# Altium schematic symbol library DSO.SchLib: 154 symbols
Pins are listed as number, name and electrical type; pins without a type are passive.

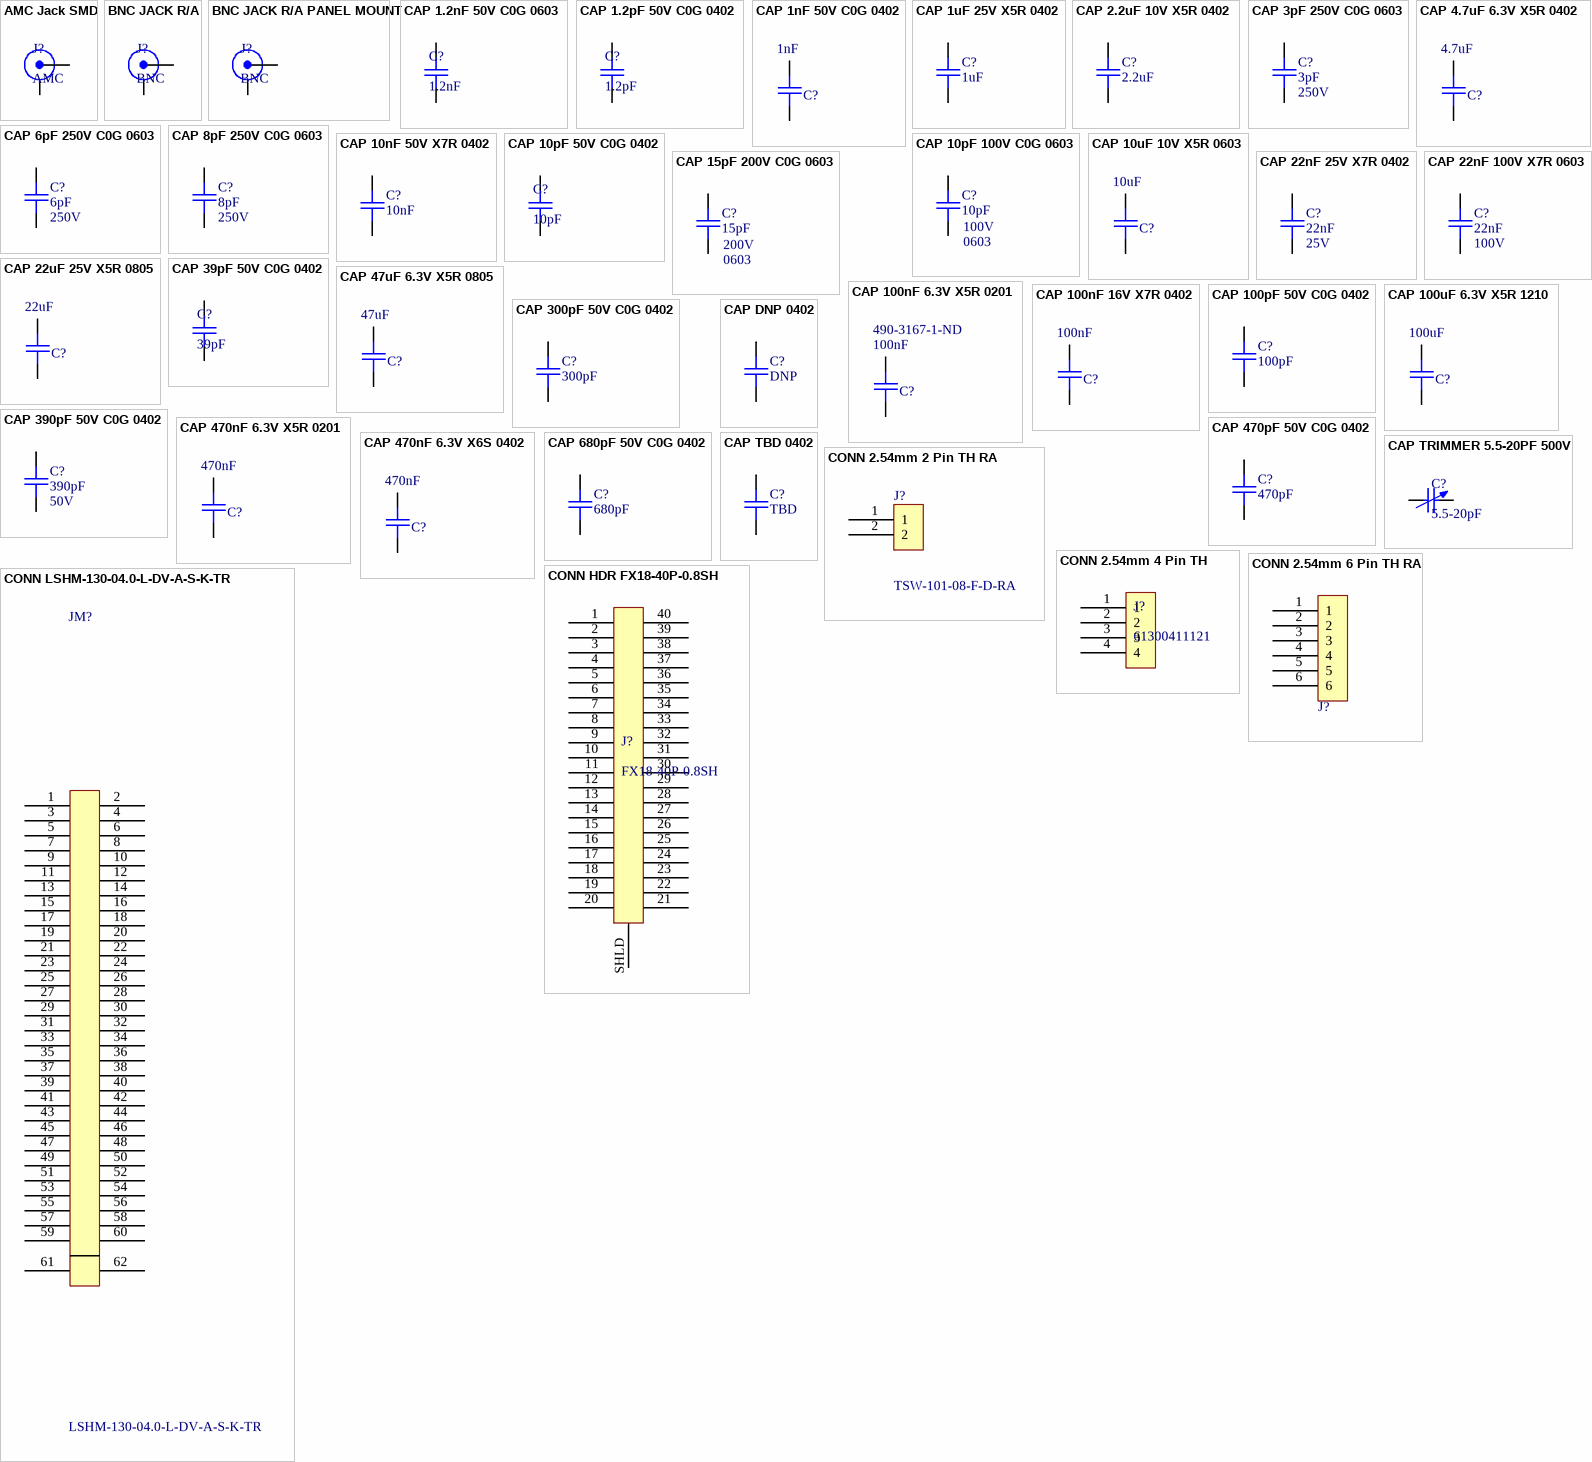
[diagram p0: symbols AMC Jack SMD to CONN LSHM-130-04.0-L-DV-A-S-K-TR]

## AMC Jack SMD
designator J?, comment AMC
Supplier 1: Digi-Key; Supplier Part Number 1: ARF1579CT-ND
footprint AMP_A-1JB
pins: 1 Signal, 2 SHIELD

## BNC JACK R/A
designator J?, comment BNC
Supplier 1: Digi-Key; Supplier Part Number 1: WM5524-ND
footprint MOL_0731000105 (Molex BNC Jack, TH Right Angle)
pins: 1 Signal, 2 SHIELD

## BNC JACK R/A PANEL MOUNT
designator J?, comment BNC
Supplier 1: Digi-Key; Supplier Part Number 1: WM5515-ND
footprint MOL_0731385033
pins: 1 Signal, 2 SHIELD

## CAP 1.2nF 50V C0G 0603
designator C?, comment 1.2nF
Voltage Rating: 50V; Temperature Coefficient: C0G; Package: 0603; Value: 1.2nF; Supplier 1: Digi-Key; Supplier Part Number 1: 490-1453-1-ND
footprint GEN_C_0603 (Chip Capacitor, 2-Leads, Body 1.60x0.80mm, IPC Medium Density)
pins: 1, 2

## CAP 1.2pF 50V C0G 0402
designator C?, comment 1.2pF
Temperature Coefficient: C0G; Voltage Rating: 50V; Package: 0402; Value: 1.2pF; Supplier 1: Digi-Key; Supplier Part Number 1: 311-1615-1-ND
footprint GEN_C_0402 (Chip Capacitor, 0402, IPC Medium Density)
pins: 1, 2

## CAP 1nF 50V C0G 0402
designator C?, comment 1nF
Voltage Rating: 50V; Package: 0402; Supplier 1: Digi-Key; Supplier Part Number 1: 490-6189-1-ND; Value: 1nF
footprint GEN_C_0402 (Chip Capacitor, 0402, IPC Medium Density)
pins: 1, 2

## CAP 1uF 25V X5R 0402
designator C?, comment 1uF
Voltage Rating: 25V; Package: 0402; Supplier 1: Digi-Key; Supplier Part Number 1: 490-10017-1-ND; Value: 1uF
footprint GEN_C_0402 (Chip Capacitor, 0402, IPC Medium Density)
pins: 1, 2

## CAP 2.2uF 10V X5R 0402
designator C?, comment 2.2uF
Voltage Rating: 10V; Package: 0402; Supplier 1: Digi-Key; Supplier Part Number 1: 587-3153-1-ND; Value: 2.2uF
footprint GEN_C_0402 (Chip Capacitor, 0402, IPC Medium Density)
pins: 1, 2

## CAP 3pF 250V C0G 0603
designator C?, comment 3pF  Voltage Rating: 250V
Package: 0603; Supplier 1: Digi-Key; Supplier Part Number 1: 399-8820-1-ND; Value: 3pF
footprint GEN_C_0603 (Chip Capacitor, 2-Leads, Body 1.60x0.80mm, IPC Medium Density)
pins: 1, 2

## CAP 4.7uF 6.3V X5R 0402
designator C?, comment 4.7uF
Voltage Rating: 6.3V; Package: 0402; Value: 4.7uF; Supplier 1: Digi-Key; Supplier Part Number 1: 490-5915-1-ND
footprint GEN_C_0402 (Chip Capacitor, 0402, IPC Medium Density)
pins: 1, 2

## CAP 6pF 250V C0G 0603
designator C?, comment 6pF  Voltage Rating: 250V
Supplier 1: Digi-Key; Supplier Part Number 1: 399-8734-1-ND; Package: 0603; Value: 6pF
footprint GEN_C_0603 (Chip Capacitor, 2-Leads, Body 1.60x0.80mm, IPC Medium Density)
pins: 1, 2

## CAP 8pF 250V C0G 0603
designator C?, comment 8pF  Voltage Rating: 250V
Package: 0603; Supplier 1: Digi-Key; Supplier Part Number 1: 399-8740-1-ND; Value: 8pF
footprint GEN_C_0603 (Chip Capacitor, 2-Leads, Body 1.60x0.80mm, IPC Medium Density)
pins: 1, 2

## CAP 10nF 50V X7R 0402
designator C?, comment 10nF
Voltage Rating: 50V; Package: 0402; Value: 10nF; Supplier 1: Digi-Key; Supplier Part Number 1: 490-6351-1-ND
footprint GEN_C_0402 (Chip Capacitor, 0402, IPC Medium Density)
pins: 1, 2

## CAP 10pF 50V C0G 0402
designator C?, comment 10pF
Temperature Coefficient: C0G; Voltage Rating: 50V; Package: 0402; Value: 10pF; Supplier 1: Digi-Key; Supplier Part Number 1: 1276-1139-1-ND
footprint GEN_C_0402 (Chip Capacitor, 0402, IPC Medium Density)
pins: 1, 2

## CAP 10pF 100V C0G 0603
designator C?, comment 10pF  Package: 0603  Voltage Rating: 100V
Value: 10pF; Supplier 1: Digi-Key; Supplier Part Number 1: 478-5769-1-ND
footprint GEN_C_0603 (Chip Capacitor, 2-Leads, Body 1.60x0.80mm, IPC Medium Density)
pins: 1, 2

## CAP 10uF 10V X5R 0603
designator C?, comment 10uF
Voltage Rating: 10V; Package: 0402; Supplier 1: Digi-Key; Supplier Part Number 1: 490-10474-1-ND; Value: 10uF
footprint GEN_C_0603 (Chip Capacitor, 2-Leads, Body 1.60x0.80mm, IPC Medium Density)
pins: 1, 2

## CAP 15pF 200V C0G 0603
designator C?, comment 15pF  Package: 0603  Voltage Rating: 200V
Supplier 1: Digi-Key; Supplier Part Number 1: 478-10254-1-ND; Value: 15pF
footprint GEN_C_0603 (Chip Capacitor, 2-Leads, Body 1.60x0.80mm, IPC Medium Density)
pins: 1, 2

## CAP 22nF 25V X7R 0402
designator C?, comment 22nF  Voltage Rating: 25V
Package: 0402; Supplier 1: Digi-Key; Supplier Part Number 1: 490-10699-1-ND; Value: 22nF
footprint GEN_C_0402 (Chip Capacitor, 0402, IPC Medium Density)
pins: 1, 2

## CAP 22nF 100V X7R 0603
designator C?, comment 22nF  Voltage Rating: 100V
Package: 0603; Supplier 1: Digi-Key; Supplier Part Number 1: 490-4782-1-ND; Value: 22nF
footprint GEN_C_0603 (Chip Capacitor, 2-Leads, Body 1.60x0.80mm, IPC Medium Density)
pins: 1, 2

## CAP 22uF 25V X5R 0805
designator C?, comment 22uF
Voltage Rating: 25V; Package: 0805; Value: 22uF; Supplier 1: Digi-Key; Supplier Part Number 1: 490-10749-1-ND
footprint GEN_C_0805 (Chip Capacitor, 2-Leads, Body 2.00x1.25mm, IPC Medium Density)
pins: 1, 2

## CAP 39pF 50V C0G 0402
designator C?, comment 39pF
Temperature Coefficient: C0G; Voltage Rating: 50V; Package: 0402; Value: 39pF; Supplier 1: Digi-Key; Supplier Part Number 1: 399-C0402C390J5GAC7867CT-ND
footprint GEN_C_0402 (Chip Capacitor, 0402, IPC Medium Density)
pins: 1, 2

## CAP 47uF 6.3V X5R 0805
designator C?, comment 47uF
Voltage Rating: 6.3V; Package: 0805; Value: 47uF; Supplier 1: Digi-Key; Supplier Part Number 1: 1276-1852-1-ND
footprint GEN_C_0805 (Chip Capacitor, 2-Leads, Body 2.00x1.25mm, IPC Medium Density)
pins: 1, 2

## CAP 100nF 6.3V X5R 0201
designator C?, comment 100nF  Supplier Part Number 1: 490-3167-1-ND
Voltage Rating: 6.3V; Package: 0201; Value: 100nF; Supplier 1: Digi-Key
footprint GEN_C_0201 (Chip Capacitor, 2-Leads, Body 0.60x0.30mm, IPC Medium Density)
pins: 1, 2

## CAP 100nF 16V X7R 0402
designator C?, comment 100nF
Voltage Rating: 16V; Package: 0402; Supplier 1: Digi-Key; Supplier Part Number 1: 490-4759-1-ND; Value: 100nF
footprint GEN_C_0402 (Chip Capacitor, 0402, IPC Medium Density)
pins: 1, 2

## CAP 100pF 50V C0G 0402
designator C?, comment 100pF
Temperature Coefficient: C0G; Voltage Rating: 50V; Package: 0402; Value: 100pF; Supplier 1: Digi-Key; Supplier Part Number 1: 490-14349-1-ND
footprint GEN_C_0402 (Chip Capacitor, 0402, IPC Medium Density)
pins: 1, 2

## CAP 100uF 6.3V X5R 1210
designator C?, comment 100uF
Voltage Rating: 6.3V; Package: 1210; Value: 100uF; Supplier 1: Digi-Key; Supplier Part Number 1: 1276-1092-1-ND
footprint GEN_C_1210 (Chip Capacitor, 2-Leads, Body 3.20x2.50mm, IPC Medium Density)
pins: 1, 2

## CAP 300pF 50V C0G 0402
designator C?, comment 300pF
Temperature Coefficient: C0G; Voltage Rating: 50V; Package: 0402; Value: 300pF; Supplier 1: Digi-Key; Supplier Part Number 1: 490-GCM1555C1H301FA16DCT-ND
footprint GEN_C_0402 (Chip Capacitor, 0402, IPC Medium Density)
pins: 1, 2

## CAP 390pF 50V C0G 0402
designator C?, comment 390pF  Voltage Rating: 50V
Temperature Coefficient: C0G; Package: 0402; Supplier 1: Digi-Key; Supplier Part Number 1: 490-8202-1-ND; Value: 390pF
footprint GEN_C_0402 (Chip Capacitor, 0402, IPC Medium Density)
pins: 1, 2

## CAP 470nF 6.3V X5R 0201
designator C?, comment 470nF
Voltage Rating: 6.3V; Package: 0201; Value: 470nF; Supplier 1: Digi-Key; Supplier Part Number 1: 490-10409-1-ND
footprint GEN_C_0201 (Chip Capacitor, 2-Leads, Body 0.60x0.30mm, IPC Medium Density)
pins: 1, 2

## CAP 470nF 6.3V X6S 0402
designator C?, comment 470nF
Voltage Rating: 6.3V; Package: 0402; Value: 470nF; Supplier 1: Digi-Key; Supplier Part Number 1: 490-6284-1-ND
footprint GEN_C_0402 (Chip Capacitor, 0402, IPC Medium Density)
pins: 1, 2

## CAP 470pF 50V C0G 0402
designator C?, comment 470pF
Temperature Coefficient: C0G; Voltage Rating: 50V; Package: 0402; Value: 470pF; Supplier 1: Digi-Key; Supplier Part Number 1: 490-8207-1-ND
footprint GEN_C_0402 (Chip Capacitor, 0402, IPC Medium Density)
pins: 1, 2

## CAP 680pF 50V C0G 0402
designator C?, comment 680pF
Temperature Coefficient: C0G; Voltage Rating: 50V; Package: 0402; Value: 680pF; Supplier 1: Digi-Key; Supplier Part Number 1: 490-16439-1-ND
footprint GEN_C_0402 (Chip Capacitor, 0402, IPC Medium Density)
pins: 1, 2

## CAP DNP 0402
designator C?, comment DNP
Package: 0402; Value: DNP
footprint GEN_C_0402 (Chip Capacitor, 0402, IPC Medium Density)
pins: 1, 2

## CAP TBD 0402
designator C?, comment TBD
Package: 0402; Value: TBD
footprint GEN_C_0402 (Chip Capacitor, 0402, IPC Medium Density)
pins: 1, 2

## CAP TRIMMER 5.5-20PF 500V
designator C?, comment 5.5-20pF
Value: 5.5-20pF; Supplier 1: Digikey; Supplier Part Number 1: 2447-SGC3S200NMCT-ND
footprint EW_TRIMCAP
pins: 1, 2

## CONN 2.54mm 2 Pin TH RA
designator J?, comment TSW-101-08-F-D-RA
Supplier 1: Digi-Key; Supplier Part Number 1: SAM12296-ND
footprint GEN_2.54mm_1x2_Pin_TH_RA
pins: 1, 2

## CONN 2.54mm 4 Pin TH
designator J?, comment 61300411121
Supplier 1: Digi-Key; Supplier Part Number 1: 732-5317-ND
footprint GEN_2.54mm_4_Pin_TH
pins: 1, 2, 3, 4

## CONN 2.54mm 6 Pin TH RA
designator J?, comment 2.54mm 6 Pin TH  (value not drawn)
Supplier 1: Digi-Key; Supplier Part Number 1: 732-5339-ND
footprint GEN_2.54mm_6_Pin_TH_RA
pins: 1, 2, 3, 4, 5, 6

## CONN HDR FX18-40P-0.8SH
designator J?, comment FX18-40P-0.8SH
Supplier 1: Digi-Key; Supplier Part Number 1: H11868-ND
footprint HIR_FX18-40P-0.8SH
pins: 1, 2, 3, 4, 5, 6, 7, 8, 9, 10, 11, 12, 13, 14, 15, 16, 17, 18, 19, 20, 21, 22, 23, 24, 25, 26, 27, 28, 29, 30, 31, 32, 33, 34, 35, 36, 37, 38, 39, 40, SHLD

## CONN LSHM-130-04.0-L-DV-A-S-K-TR
designator JM?, comment LSHM-130-04.0-L-DV-A-S-K-TR
Supplier 1: Digi-Key; Supplier Part Number 1: SAM9034CT-ND
footprint SAM_LSHM-130-XX.X-XX-DV-A-S
pins: 1, 2, 3, 4, 5, 6, 7, 8, 9, 10, 11, 12, 13, 14, 15, 16, 17, 18, 19, 20, 21, 22, 23, 24, 25, 26, 27, 28, 29, 30, 31, 32, 33, 34, 35, 36, 37, 38, 39, 40, 41, 42, 43, 44, 45, 46, 47, 48, 49, 50, 51, 52, 53, 54, 55, 56, 57, 58, 59, 60, 61, 62

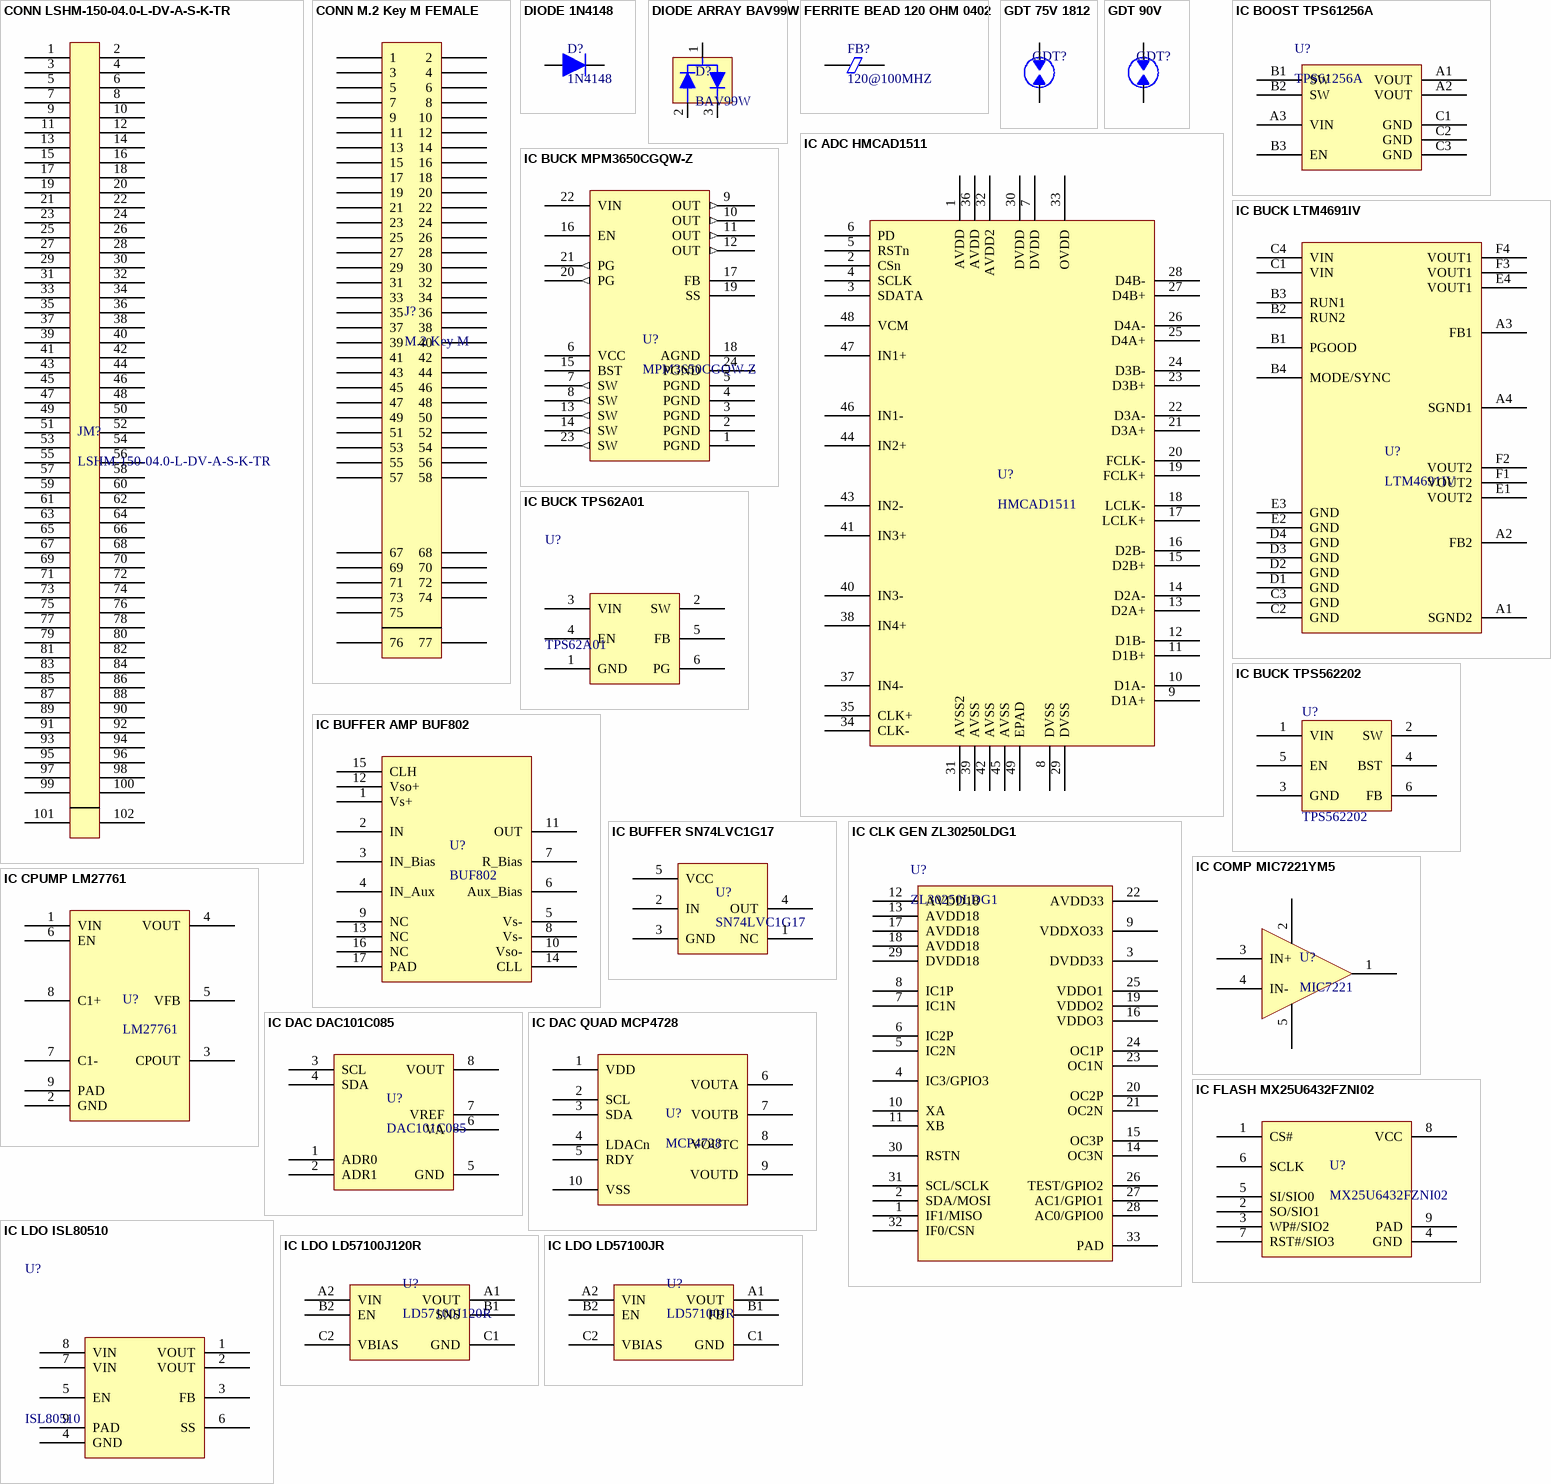
[diagram p1: symbols CONN LSHM-150-04.0-L-DV-A-S-K-TR to IC LDO LD57100JR]

## CONN LSHM-150-04.0-L-DV-A-S-K-TR
designator JM?, comment LSHM-150-04.0-L-DV-A-S-K-TR
Supplier 1: Digi-Key; Supplier Part Number 1: SAM9033CT-ND
footprint SAM_LSHM-150-XX.X-XX-DV-A-S
pins: 1, 2, 3, 4, 5, 6, 7, 8, 9, 10, 11, 12, 13, 14, 15, 16, 17, 18, 19, 20, 21, 22, 23, 24, 25, 26, 27, 28, 29, 30, 31, 32, 33, 34, 35, 36, 37, 38, 39, 40, 41, 42, 43, 44, 45, 46, 47, 48, 49, 50, 51, 52, 53, 54, 55, 56, 57, 58, 59, 60, 61, 62, 63, 64, 65, 66, 67, 68, 69, 70, 71, 72, 73, 74, 75, 76, 77, 78, 79, 80, 81, 82, 83, 84, 85, 86, 87, 88, 89, 90, 91, 92, 93, 94, 95, 96, 97, 98, 99, 100, 101, 102

## CONN M.2 Key M FEMALE
designator J?, comment M.2 Key M
Supplier 1: Digi-Key; Supplier Part Number 1: A124992CT-ND
footprint TE_M2_KEYM_2199230
pins: 1, 2, 3, 4, 5, 6, 7, 8, 9, 10, 11, 12, 13, 14, 15, 16, 17, 18, 19, 20, 21, 22, 23, 24, 25, 26, 27, 28, 29, 30, 31, 32, 33, 34, 35, 36, 37, 38, 39, 40, 41, 42, 43, 44, 45, 46, 47, 48, 49, 50, 51, 52, 53, 54, 55, 56, 57, 58, 67, 68, 69, 70, 71, 72, 73, 74, 75, 76, 77

## DIODE 1N4148
designator D?, comment 1N4148
Max Reverse Voltage: 75V; Max Current: 150mA; Supplier 1: Digi-Key; Supplier Part Number 1: 1N4148WS-FDICT-ND
footprint GEN_SOD_323
pins: 1 K, 2 A

## DIODE ARRAY BAV99W
designator D?, comment BAV99W
Supplier 1: Digi-Key; Supplier Part Number 1: BAV99W-FDICT-ND
footprint GEN_SOT_323
pins: 1  , 2, 3

## FERRITE BEAD 120 OHM 0402
designator FB?, comment 120@100MHZ
Supplier 1: Digi-Key; Supplier Part Number 1: 490-9656-1-ND
footprint GEN_R_0402 (Chip Resistor, 2-Leads, Body 1.00x0.50mm, IPC Medium Density)
pins: 1, 2

## GDT 75V 1812
designator GDT?, comment 4532-075-LF  (value not drawn)
Supplier 1: Digi-Key; Supplier Part Number 1: YAG6774CT-ND
footprint BOU_2051
pins: 1, 2

## GDT 90V
designator GDT?, comment GDT  (value not drawn)
Supplier 1: Digi-Key; Supplier Part Number 1: 2051-09-SM-RPLFCT-ND
footprint BOU_2051
pins: 1, 2

## IC ADC HMCAD1511
designator U?, comment HMCAD1511
Supplier 1: Digi-Key; Supplier Part Number 1: 1127-1648-ND
footprint AD_QFN48_LP7 (QFN, 48-Leads, Body 7.00x7.00mm, Pitch 0.50mm, Thermal Pad 5.28x5.28mm, IPC Medium Density)
pins: 1 AVDD, 2 CSn, 3 SDATA, 4 SCLK, 5 RSTn, 6 PD, 7 DVDD, 8 DVSS, 9 D1A+, 10 D1A-, 11 D1B+, 12 D1B-, 13 D2A+, 14 D2A-, 15 D2B+, 16 D2B-, 17 LCLK+, 18 LCLK-, 19 FCLK+, 20 FCLK-, 21 D3A+, 22 D3A-, 23 D3B+, 24 D3B-, 25 D4A+, 26 D4A-, 27 D4B+, 28 D4B-, 29 DVSS, 30 DVDD, 31 AVSS2, 32 AVDD2, 33 OVDD, 34 CLK-, 35 CLK+, 36 AVDD, 37 IN4-, 38 IN4+, 39 AVSS, 40 IN3-, 41 IN3+, 42 AVSS, 43 IN2-, 44 IN2+, 45 AVSS, 46 IN1-, 47 IN1+, 48 VCM, 49 EPAD

## IC BOOST TPS61256A
designator U?, comment TPS61256A
Supplier 1: Digi-Key; Supplier Part Number 1: 296-48833-1-ND
footprint TI_DSBGA_YFF0009 (BGA, 9-Leads, Body 1.21x1.31mmx0.63mm, Pitch 0.40mm)
pins: A1 VOUT, A2 VOUT, A3 VIN, B1 SW, B2 SW, B3 EN, C1 GND, C2 GND, C3 GND

## IC BUCK LTM4691IV
designator U?, comment LTM4691IV
Supplier 1: Digi-Key; Supplier Part Number 1: 505-LTM4691IV#PBF-ND
footprint AD_LGA24
pins: A1 SGND2, A2 FB2, A3 FB1, A4 SGND1, B1 PGOOD, B2 RUN2, B3 RUN1, B4 MODE/SYNC, C1 VIN, C2 GND, C3 GND, C4 VIN, D1 GND, D2 GND, D3 GND, D4 GND, E1 VOUT2, E2 GND, E3 GND, E4 VOUT1, F1 VOUT2, F2 VOUT2, F3 VOUT1, F4 VOUT1

## IC BUCK MPM3650CGQW-Z
designator U?, comment MPM3650CGQW-Z
Supplier 1: Digi-Key; Supplier Part Number 1: 1589-MPM3650CGQW-ZCT-ND
footprint MPS_MPM3650
pins: 1 PGND, 2 PGND, 3 PGND, 4 PGND, 5 PGND, 6 VCC (power), 7 SW (out), 8 SW (out), 9 OUT (out), 10 OUT (out), 11 OUT (out), 12 OUT (out), 13 SW (out), 14 SW (out), 15 BST, 16 EN, 17 FB, 18 AGND, 19 SS, 20 PG (out), 21 PG (out), 22 VIN (power), 23 SW (out), 24 PGND

## IC BUCK TPS62A01
designator U?, comment TPS62A01
Supplier 1: Mouser; Supplier Part Number 1: 595-TPS62A01DRLR
footprint TI_SOT563_DRL0006A (SOTFL, 6-Leads, Body 1.60x1.60mm, Pitch 0.50mm, IPC Medium Density)
pins: 1 GND (power), 2 SW, 3 VIN (power), 4 EN, 5 FB, 6 PG

## IC BUCK TPS562202
designator U?, comment TPS562202
Supplier 1: Digi-Key; Supplier Part Number 1: 296-TPS562202DRLRCT-ND
footprint TI_SOT563_DRL0006A (SOTFL, 6-Leads, Body 1.60x1.60mm, Pitch 0.50mm, IPC Medium Density)
pins: 1 VIN (power), 2 SW, 3 GND (power), 4 BST, 5 EN, 6 FB

## IC BUFFER AMP BUF802
designator U?, comment BUF802
footprint TI_VQFN_RGT0016C (QFN, 16-Leads, Body 3.00x3.00mm, Pitch 0.50mm, Thermal Pad 1.68x1.68mm, IPC Medium Density)
pins: 1 Vs+, 2 IN, 3 IN_Bias, 4 IN_Aux, 5 Vs-, 6 Aux_Bias, 7 R_Bias, 8 Vs-, 9 NC, 10 Vso-, 11 OUT, 12 Vso+, 13 NC, 14 CLL, 15 CLH, 16 NC, 17 PAD

## IC BUFFER SN74LVC1G17
designator U?, comment SN74LVC1G17
Supplier 1: Digi-Key; Supplier Part Number 1: 296-11934-1-ND
footprint GEN_SC-70-5 (SOT23, 5-Leads, Body 2.00x2.10mm, Pitch 0.65mm, IPC Medium Density)
pins: 1 NC, 2 IN, 3 GND, 4 OUT, 5 VCC

## IC CLK GEN ZL30250LDG1
designator U?, comment ZL30250LDG1
Supplier 1: Mouser; Supplier Part Number 1: 494-ZL30250LDG1
footprint MC_QFN32_ZL30250 (QFN, 32-Leads, Body 5.00x5.00mm, Pitch 0.50mm, Thermal Pad 3.50x3.50mm, IPC Medium Density)
pins: 1 IF1/MISO, 2 SDA/MOSI, 3 DVDD33, 4 IC3/GPIO3, 5 IC2N, 6 IC2P, 7 IC1N, 8 IC1P, 9 VDDXO33, 10 XA, 11 XB, 12 AVDD18, 13 AVDD18, 14 OC3N, 15 OC3P, 16 VDDO3, 17 AVDD18, 18 AVDD18, 19 VDDO2, 20 OC2P, 21 OC2N, 22 AVDD33, 23 OC1N, 24 OC1P, 25 VDDO1, 26 TEST/GPIO2, 27 AC1/GPIO1, 28 AC0/GPIO0, 29 DVDD18, 30 RSTN, 31 SCL/SCLK, 32 IF0/CSN, 33 PAD

## IC COMP MIC7221YM5
designator U?, comment MIC7221
Supplier 1: Digi-Key; Supplier Part Number 1: 576-2901-1-ND
footprint GEN_SOT23_5_950_2900X1600X1450 (SOT23, 5-Leads, Body 2.90x2.80mm, Pitch 0.95mm, IPC Medium Density)
pins: 1 OUT (oc), 2 V+, 3 IN+, 4 IN-, 5 V-

## IC CPUMP LM27761
designator U?, comment LM27761
Supplier 1: Digi-Key; Supplier Part Number 1: 296-44379-1-ND
footprint TI_WSON8_DSG0008A (SON, 8-Leads, Body 2.00x2.00mm, Pitch 0.50mm, Thermal Pad 1.60x0.69mm, IPC Medium Density)
pins: 1 VIN (power), 2 GND (power), 3 CPOUT, 4 VOUT (power), 5 VFB, 6 EN, 7 C1-, 8 C1+, 9 PAD (power)

## IC DAC DAC101C085
designator U?, comment DAC101C085
Supplier 1: Digi-Key; Supplier Part Number 1: DAC101C085CIMM/NOPBCT-ND
footprint TI_VSSOP8_DGK (TSOP, 8-Leads, Body 3.00x3.00mm, Pitch 0.65mm, IPC Medium Density)
pins: 1 ADR0, 2 ADR1, 3 SCL, 4 SDA, 5 GND (power), 6 VA (power), 7 VREF (power), 8 VOUT

## IC DAC QUAD MCP4728
designator U?, comment MCP4728
Supplier 1: Digi-Key; Supplier Part Number 1: MCP4728A1T-E/UNCT-ND
footprint MC_MSOP10_UN (TSSOP, 10-Leads, Body 3.00x3.00mm, Pitch 0.50mm, IPC Medium Density)
pins: 1 VDD (power), 2 SCL, 3 SDA, 4 LDACn, 5 RDY, 6 VOUTA, 7 VOUTB, 8 VOUTC, 9 VOUTD, 10 VSS (power)

## IC FLASH MX25U6432FZNI02
designator U?, comment MX25U6432FZNI02
Supplier 1: Digi-Key; Supplier Part Number 1: 1092-MX25U6432FZNI02-ND
footprint MX_WSON8 (SON, 8-Leads, Body 5.00x6.00mm, Pitch 1.27mm, Thermal Pad 4.00x3.40mm, IPC Medium Density)
pins: 1 CS#, 2 SO/SIO1, 3 WP#/SIO2, 4 GND, 5 SI/SIO0, 6 SCLK, 7 RST#/SIO3, 8 VCC, 9 PAD

## IC LDO ISL80510
designator U?, comment ISL80510
Supplier 1: Mouser; Supplier Part Number 1: 968-ISL80510IRAJZ-T7
footprint REN_DFN_ISL80510 (QFN, 8-Leads, Body 3.00x3.00mm, Pitch 0.65mm, Thermal Pad 1.62x2.36mm, IPC Medium Density)
pins: 1 VOUT (power), 2 VOUT (power), 3 FB, 4 GND (power), 5 EN, 6 SS, 7 VIN (power), 8 VIN (power), 9 PAD

## IC LDO LD57100J120R
designator U?, comment LD57100J120R
Supplier 1: Digi-Key; Supplier Part Number 1: 497-LD57100J120RCT-ND
footprint ST_FlipChip6 (BGA, 6-Leads, Body 0.78x1.18mmx0.36mm, Pitch 0.40mm)
pins: A1 VOUT, A2 VIN, B1 SNS, B2 EN, C1 GND, C2 VBIAS

## IC LDO LD57100JR
designator U?, comment LD57100JR
Supplier 1: Digi-Key; Supplier Part Number 1: 497-LD57100JRCT-ND
footprint ST_FlipChip6 (BGA, 6-Leads, Body 0.78x1.18mmx0.36mm, Pitch 0.40mm)
pins: A1 VOUT, A2 VIN, B1 FB, B2 EN, C1 GND, C2 VBIAS

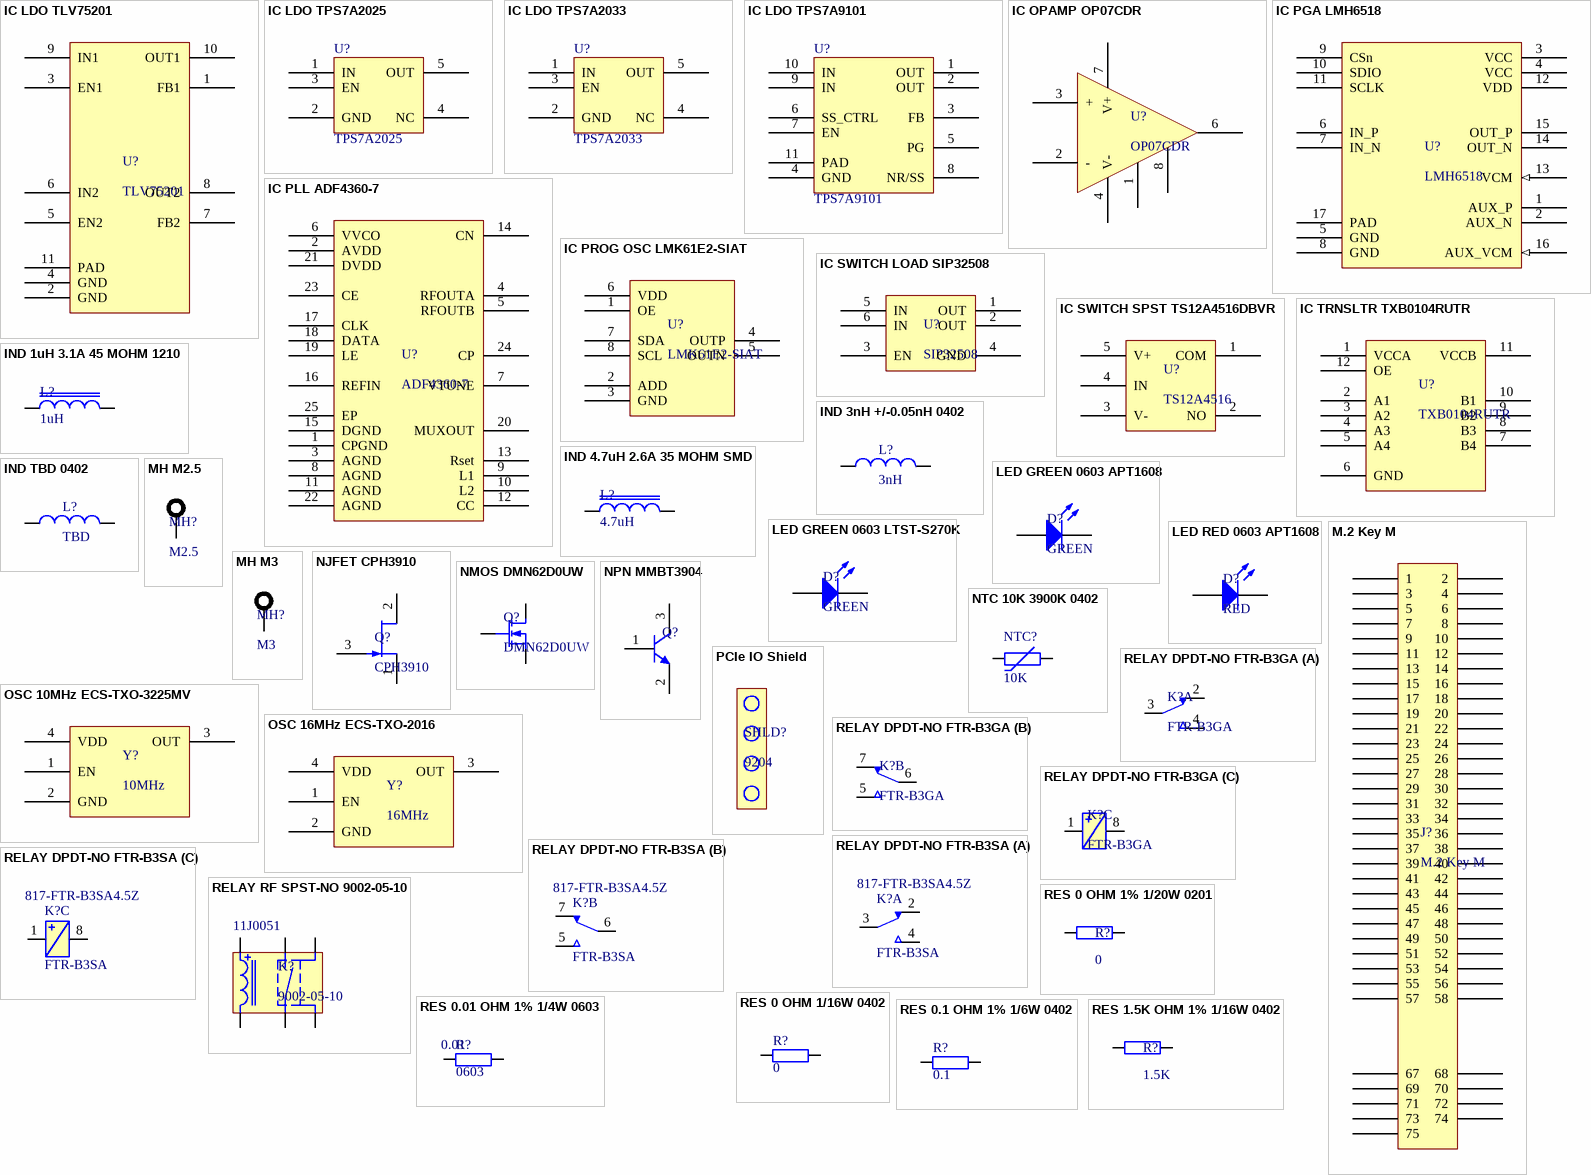
[diagram p2: symbols IC LDO TLV75201 to RES 1.5K OHM 1% 1/16W 0402]

## IC LDO TLV75201
designator U?, comment TLV75201
Supplier 1: Digi-Key; Supplier Part Number 1: 296-TLV75201PDSQRCT-ND
footprint TI_WSON10_DSQ0010A (SON, 10-Leads, Body 2.00x2.00mm, Pitch 0.40mm, Thermal Pad 1.50x0.69mm, IPC Medium Density)
pins: 1 FB1, 2 GND (power), 3 EN1, 4 GND (power), 5 EN2, 6 IN2 (power), 7 FB2, 8 OUT2 (power), 9 IN1 (power), 10 OUT1 (power), 11 PAD (power)

## IC LDO TPS7A2025
designator U?, comment TPS7A2025
Supplier 1: Digi-Key; Supplier Part Number 1: 296-TPS7A2025PDBVRCT-ND
footprint GEN_SOT23_5_950_2900X1600X1450 (SOT23, 5-Leads, Body 2.90x2.80mm, Pitch 0.95mm, IPC Medium Density)
pins: 1 IN (power), 2 GND (power), 3 EN, 4 NC, 5 OUT (power)

## IC LDO TPS7A2033
designator U?, comment TPS7A2033
Supplier 1: Digi-Key; Supplier Part Number 1: 296-TPS7A2033PDBVRCT-ND
footprint GEN_SOT23_5_950_2900X1600X1450 (SOT23, 5-Leads, Body 2.90x2.80mm, Pitch 0.95mm, IPC Medium Density)
pins: 1 IN (power), 2 GND (power), 3 EN, 4 NC, 5 OUT (power)

## IC LDO TPS7A9101
designator U?, comment TPS7A9101
Supplier 1: Digi-Key; Supplier Part Number 1: 296-45298-1-ND
footprint TI_WSON10_DSK0010A (SON, 10-Leads, Body 2.50x2.50mm, Pitch 0.50mm, Thermal Pad 2.00x1.09mm, IPC Medium Density)
pins: 1 OUT (power), 2 OUT (power), 3 FB, 4 GND (power), 5 PG, 6 SS_CTRL, 7 EN, 8 NR/SS, 9 IN (power), 10 IN (power), 11 PAD

## IC OPAMP OP07CDR
designator U?, comment OP07CDR
Supplier 1: Digi-Key; Supplier Part Number 1: 296-14626-1-ND
footprint TI_SOIC8_D0008A (SOIC, 8-Leads, Body 4.91x3.90mm, Pitch 1.27mm, Height 1.75mm, IPC Medium Density)
pins: 1 N1, 2 -, 3 +, 4 V-, 6 OUT, 7 V+, 8 N2

## IC PGA LMH6518
designator U?, comment LMH6518
Supplier 1: Digi-Key; Supplier Part Number 1: LMH6518SQE/NOPBCT-ND
footprint TI_WQFN_RGH0016A (QFN, 16-Leads, Body 4.00x4.00mm, Pitch 0.50mm, Thermal Pad 2.60x2.60mm, IPC Medium Density)
pins: 1 AUX_P, 2 AUX_N, 3 VCC (power), 4 VCC (power), 5 GND (power), 6 IN_P, 7 IN_N, 8 GND (power), 9 CSn, 10 SDIO, 11 SCLK, 12 VDD (power), 13 VCM (in), 14 OUT_N, 15 OUT_P, 16 AUX_VCM (in), 17 PAD (power)

## IC PLL ADF4360-7
designator U?, comment ADF4360-7
Supplier 1: Digi-Key; Supplier Part Number 1: ADF4360-7BCPZRL7CT-ND
footprint AD_QFN24_CP-24-14 (QFN, 24-Leads, Body 4.00x4.00mm, Pitch 0.50mm, Thermal Pad 2.30x2.30mm, IPC Medium Density)
pins: 1 CPGND (power), 2 AVDD, 3 AGND, 4 RFOUTA, 5 RFOUTB, 6 VVCO, 7 VTUNE, 8 AGND, 9 L1, 10 L2, 11 AGND, 12 CC, 13 Rset, 14 CN, 15 DGND, 16 REFIN, 17 CLK, 18 DATA, 19 LE, 20 MUXOUT, 21 DVDD, 22 AGND, 23 CE, 24 CP, 25 EP

## IC PROG OSC LMK61E2-SIAT
designator U?, comment LMK61E2-SIAT
Supplier 1: Digi-Key; Supplier Part Number 1: 296-43212-1-ND
footprint TI_QFM8_SIA0008B
pins: 1 OE, 2 ADD, 3 GND (power), 4 OUTP, 5 OUTN, 6 VDD (power), 7 SDA, 8 SCL

## IC SWITCH LOAD SIP32508
designator U?, comment SIP32508
Supplier 1: Digi-Key; Supplier Part Number 1: SIP32508DT-T1-GE3CT-ND
footprint VISH_TSOT6 (SOT23, 6-Leads, Body 2.98x2.84mm, Pitch 0.95mm, IPC Medium Density)
pins: 1 OUT, 2 OUT, 3 EN, 4 GND, 5 IN, 6 IN

## IC SWITCH SPST TS12A4516DBVR
designator U?, comment TS12A4516
Supplier 1: Digi-Key; Supplier Part Number 1: 296-24269-1-ND
footprint GEN_SOT23_5_950_2900X1600X1450 (SOT23, 5-Leads, Body 2.90x2.80mm, Pitch 0.95mm, IPC Medium Density)
pins: 1 COM, 2 NO, 3 V-, 4 IN, 5 V+

## IC TRNSLTR TXB0104RUTR
designator U?, comment TXB0104RUTR
Supplier 1: Digi-Key; Supplier Part Number 1: 296-25888-1-ND
footprint TI_UQFN_RUT0012A
pins: 1 VCCA, 2 A1, 3 A2, 4 A3, 5 A4, 6 GND, 7 B4, 8 B3, 9 B2, 10 B1, 11 VCCB, 12 OE

## IND 1uH 3.1A 45 MOHM 1210
designator L?, comment 1uH
Value: 1uH; Supplier 1: Digi-Key; Supplier Part Number 1: 490-10590-1-ND
footprint GEN_L_1210 (Chip Inductor, 2-Leads, Body 3.20x2.50mm, IPC Medium Density)
pins: 1, 2

## IND 3nH +/-0.05nH 0402
designator L?, comment 3nH
Value: 3nH; Supplier 1: Digi-Key; Supplier Part Number 1: 490-8434-1-ND
footprint GEN_L_0402 (Chip Inductor, 2-Leads, Body 1.00x0.50mm, IPC Medium Density)
pins: 1, 2

## IND 4.7uH 2.6A 35 MOHM SMD
designator L?, comment 4.7uH
Value: 4.7uH; Supplier 1: Digi-Key; Supplier Part Number 1: 587-3461-1-ND
footprint TY_IND_NRS5030 (Precision Wire Wound Inductor, 2-Leads, Body 4.90x4.90mm, IPC Medium Density)
pins: 1, 2

## IND TBD 0402
designator L?, comment TBD
Value: TBD
footprint GEN_L_0402 (Chip Inductor, 2-Leads, Body 1.00x0.50mm, IPC Medium Density)
pins: 1, 2

## LED GREEN 0603 APT1608
designator D?, comment GREEN
Supplier 1: Digi-Key; Supplier Part Number 1: 754-1934-1-ND
footprint LED_0603_APT1608
pins: 1 K, 2 A

## LED GREEN 0603 LTST-S270K
designator D?, comment GREEN
Supplier 1: Digi-Key; Supplier Part Number 1: 160-1478-1-ND
footprint LED_0603_LTST-S270K
pins: 1 K, 2 A

## LED RED 0603 APT1608
designator D?, comment RED
Supplier 1: Digi-Key; Supplier Part Number 1: 754-1930-1-ND
footprint LED_0603_APT1608
pins: 1 K, 2 A

## M.2 Key M
designator J?
footprint PCB EDGE M.2 Key M
pins: 1, 2, 3, 4, 5, 6, 7, 8, 9, 10, 11, 12, 13, 14, 15, 16, 17, 18, 19, 20, 21, 22, 23, 24, 25, 26, 27, 28, 29, 30, 31, 32, 33, 34, 35, 36, 37, 38, 39, 40, 41, 42, 43, 44, 45, 46, 47, 48, 49, 50, 51, 52, 53, 54, 55, 56, 57, 58, 67, 68, 69, 70, 71, 72, 73, 74, 75

## MH M2.5
designator MH?, comment M2.5  (no BOM)
footprint MH M2.5
pins: 1

## MH M3
designator MH?, comment M3  (no BOM)
footprint MH M3
pins: 1

## NJFET CPH3910
designator Q?, comment CPH3910
Supplier 1: Digi-Key; Supplier Part Number 1: CPH3910-TL-EOSCT-ND
footprint ON_SOT23_CPH3 (SOT23, 3-Leads, Body 2.90x2.80mm, Pitch 0.95mm, Height 0.95mm, IPC Medium Density)
pins: 1 S, 2 D, 3 G

## NMOS DMN62D0UW
designator Q?, comment DMN62D0UW
Vdss: 60V; Id: 340mA; Max Power: 320mW; Supplier 1: Digi-Key; Supplier Part Number 1: DMN62D0UW-7DICT-ND
footprint GEN_SOT_323
pins: 1 D, 2 G, 3 S

## NPN MMBT3904
designator Q?, comment MMBT3904  (value not drawn)
Supplier 1: Digi-Key; Supplier Part Number 1: MMBT3904TPMSCT-ND
footprint MMC_SOT23 (SOT23, 3-Leads, Body 2.92x2.37mm, Pitch 0.95mm, Height 1.12mm, IPC Medium Density)
pins: 1 B, 2 E, 3 C

## NTC 10K 3900K 0402
designator NTC?, comment 10K
B Value: 3900k; Package: 0402; Supplier 1: Digi-Key; Value: 10K; Supplier Part Number 1: P12985CT-ND
footprint GEN_R_0402 (Chip Resistor, 2-Leads, Body 1.00x0.50mm, IPC Medium Density)
pins: 1, 2

## OSC 10MHz ECS-TXO-3225MV
designator Y?, comment 10MHz
Supplier 1: Digi-Key; Supplier Part Number 1: 50-ECS-TXO-3225MV-100-CT-ND
footprint ECS_TXO-3225
pins: 1 EN, 2 GND (power), 3 OUT, 4 VDD (power)

## OSC 16MHz ECS-TXO-2016
designator Y?, comment 16MHz
Supplier 1: Digi-Key; Supplier Part Number 1: XC3161CT-ND
footprint ECS_TXO-2016
pins: 1 EN, 2 GND (power), 3 OUT, 4 VDD (power)

## PCIe IO Shield
designator SHLD?, comment 9204  (mechanical)
Supplier 1: Mouser; Supplier Part Number 1: 534-9204

## RELAY DPDT-NO FTR-B3GA
designator K?, comment FTR-B3GA
footprint FUJ_FTR-B3GA
part A pins: 2, 3, 4
part B pins: 5, 6, 7
part C pins: 1, 8

## RELAY DPDT-NO FTR-B3SA
designator K?, comment FTR-B3SA  Supplier Part Number 1: 817-FTR-B3SA4.5Z
Supplier 1: Mouser
footprint FUJ_FTR-B3SA
part A pins: 2, 3, 4
part B pins: 5, 6, 7
part C pins: 1, 8

## RELAY RF SPST-NO 9002-05-10
designator K?, comment 9002-05-10  Supplier Part Number 1: 11J0051
Supplier 1: Newark
footprint COTO_9002-05-10
pins: 1, 2, 3, 4, 5, 6

## RES 0 OHM 1% 1/20W 0201
designator R?, comment 0
Tolerance: 1%; Power Rating: 0.05W; Package: 0201; Value: 0; Supplier 1: Digi-Key; Supplier Part Number 1: RMCF0201ZT0R00CT-ND
footprint GEN_R_0201 (Chip Resistor, 2-Leads, Body 0.60x0.30mm, IPC Medium Density)
pins: 1, 2

## RES 0 OHM 1/16W 0402
designator R?, comment 0
Power Rating: 0.0625W; Package: 0402; Supplier 1: Digi-Key; Supplier Part Number 1: 311-0.0JRCT-ND; Value: 0
footprint GEN_R_0402 (Chip Resistor, 2-Leads, Body 1.00x0.50mm, IPC Medium Density)
pins: 1, 2

## RES 0.01 OHM 1% 1/4W 0603
designator R?, comment 0.01  Package: 0603
Tolerance: 1%; Power Rating: 0.25W; Supplier 1: Digi-Key; Supplier Part Number 1: 408-1404-1-ND; Value: 0.01
footprint GEN_R_0603
pins: 1, 2

## RES 0.1 OHM 1% 1/6W 0402
designator R?, comment 0.1
Tolerance: 1%; Power Rating: 0.16W; Package: 0402; Supplier 1: Digi-Key; Supplier Part Number 1: P.10AKCT-ND; Value: 0.1
footprint GEN_R_0402 (Chip Resistor, 2-Leads, Body 1.00x0.50mm, IPC Medium Density)
pins: 1, 2

## RES 1.5K OHM 1% 1/16W 0402
designator R?, comment 1.5K
Tolerance: 1%; Power Rating: 0.0625W; Package: 0402; Value: 1.5K; Supplier 1: Digi-Key; Supplier Part Number 1: 311-1.50KLRCT-ND
footprint GEN_R_0402 (Chip Resistor, 2-Leads, Body 1.00x0.50mm, IPC Medium Density)
pins: 1, 2

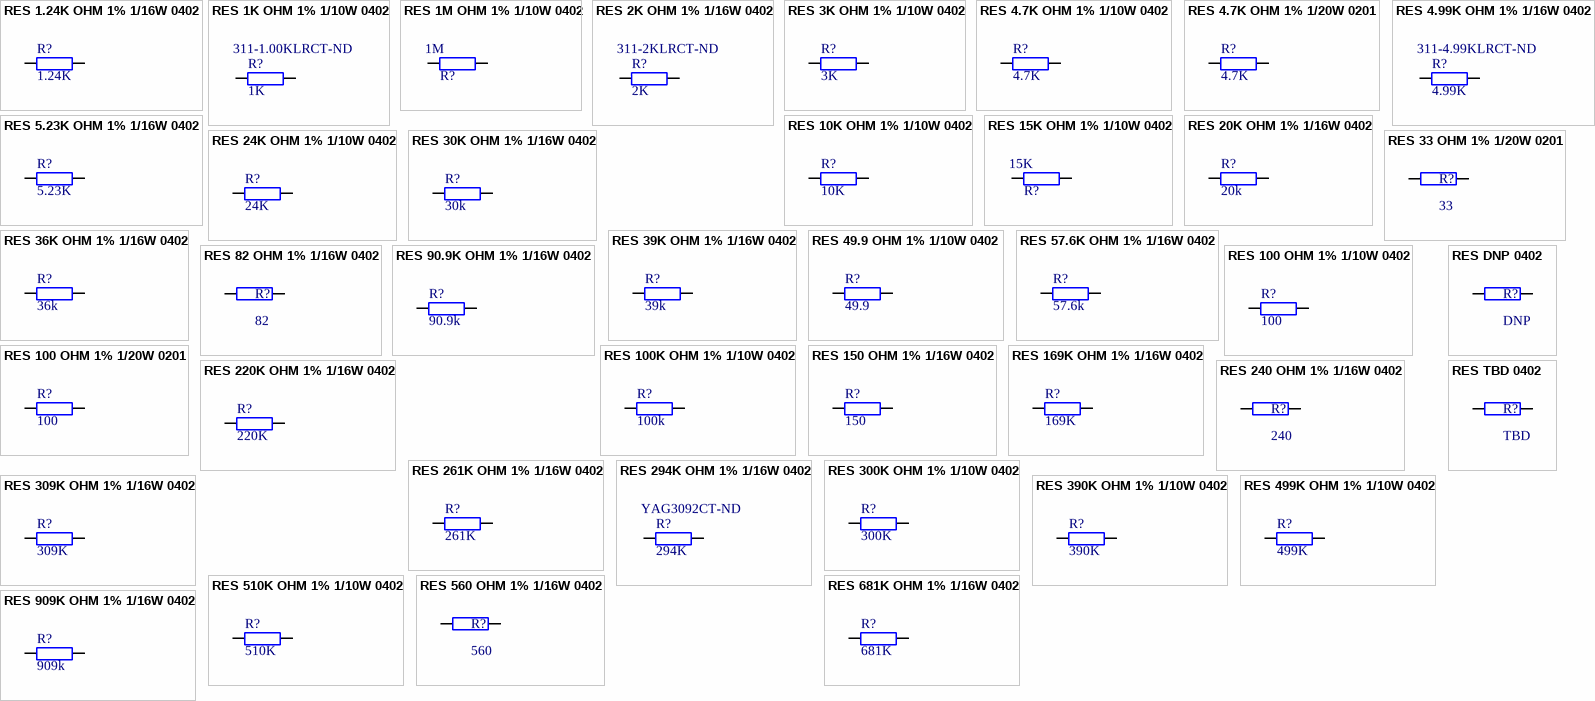
[diagram p3: symbols RES 1.24K OHM 1% 1/16W 0402 to RES TBD 0402]

## RES 1.24K OHM 1% 1/16W 0402
designator R?, comment 1.24K
Tolerance: 1%; Power Rating: 0.0625W; Package: 0402; Value: 1.24K; Supplier 1: Digi-Key; Supplier Part Number 1: 311-1.24KLRCT-ND
footprint GEN_R_0402 (Chip Resistor, 2-Leads, Body 1.00x0.50mm, IPC Medium Density)
pins: 1, 2

## RES 1K OHM 1% 1/10W 0402
designator R?, comment 1K  Supplier Part Number 1: 311-1.00KLRCT-ND
Tolerance: 1%; Power Rating: 0.1W; Package: 0402; Value: 1K; Supplier 1: Digi-Key
footprint GEN_R_0402 (Chip Resistor, 2-Leads, Body 1.00x0.50mm, IPC Medium Density)
pins: 1, 2

## RES 1M OHM 1% 1/10W 0402
designator R?, comment 1M
Tolerance: 1%; Power Rating: 0.1W; Package: 0402; Supplier 1: Digi-Key; Supplier Part Number 1: P1.00MLCT-ND; Value: 1M
footprint GEN_R_0402 (Chip Resistor, 2-Leads, Body 1.00x0.50mm, IPC Medium Density)
pins: 1, 2

## RES 2K OHM 1% 1/16W 0402
designator R?, comment 2K  Supplier Part Number 1: 311-2KLRCT-ND
Tolerance: 1%; Power Rating: 0.0625W; Package: 0402; Value: 2K; Supplier 1: Digi-Key
footprint GEN_R_0402 (Chip Resistor, 2-Leads, Body 1.00x0.50mm, IPC Medium Density)
pins: 1, 2

## RES 3K OHM 1% 1/10W 0402
designator R?, comment 3K
Tolerance: 1%; Power Rating: 0.1W; Package: 0402; Supplier 1: Digi-Key; Supplier Part Number 1: P3.00KLCT-ND; Value: 3K
footprint GEN_R_0402 (Chip Resistor, 2-Leads, Body 1.00x0.50mm, IPC Medium Density)
pins: 1, 2

## RES 4.7K OHM 1% 1/10W 0402
designator R?, comment 4.7K
Tolerance: 1%; Power Rating: 0.1W; Package: 0402; Supplier 1: Digi-Key; Supplier Part Number 1: P4.70KLCT-ND; Value: 4.7K
footprint GEN_R_0402 (Chip Resistor, 2-Leads, Body 1.00x0.50mm, IPC Medium Density)
pins: 1, 2

## RES 4.7K OHM 1% 1/20W 0201
designator R?, comment 4.7K
Tolerance: 1%; Power Rating: 0.05W; Package: 0201; Value: 4.7K; Supplier 1: Digi-Key; Supplier Part Number 1: 311-4.70KMTR-ND
footprint GEN_R_0201 (Chip Resistor, 2-Leads, Body 0.60x0.30mm, IPC Medium Density)
pins: 1, 2

## RES 4.99K OHM 1% 1/16W 0402
designator R?, comment 4.99K  Supplier Part Number 1: 311-4.99KLRCT-ND
Tolerance: 1%; Power Rating: 0.0625W; Package: 0402; Value: 4.99K; Supplier 1: Digi-Key
footprint GEN_R_0402 (Chip Resistor, 2-Leads, Body 1.00x0.50mm, IPC Medium Density)
pins: 1, 2

## RES 5.23K OHM 1% 1/16W 0402
designator R?, comment 5.23K
Tolerance: 1%; Power Rating: 0.0625W; Package: 0402; Value: 5.23K; Supplier 1: Digi-Key; Supplier Part Number 1: YAG3195CT-ND
footprint GEN_R_0402 (Chip Resistor, 2-Leads, Body 1.00x0.50mm, IPC Medium Density)
pins: 1, 2

## RES 10K OHM 1% 1/10W 0402
designator R?, comment 10K
Tolerance: 1%; Power Rating: 0.1W; Package: 0402; Supplier 1: Digi-Key; Supplier Part Number 1: P10.0KLCT-ND; Value: 10K
footprint GEN_R_0402 (Chip Resistor, 2-Leads, Body 1.00x0.50mm, IPC Medium Density)
pins: 1, 2

## RES 15K OHM 1% 1/10W 0402
designator R?, comment 15K
Tolerance: 1%; Power Rating: 0.1W; Package: 0402; Supplier 1: Digi-Key; Supplier Part Number 1: P15.0KLCT-ND; Value: 15K
footprint GEN_R_0402 (Chip Resistor, 2-Leads, Body 1.00x0.50mm, IPC Medium Density)
pins: 1, 2

## RES 20K OHM 1% 1/16W 0402
designator R?, comment 20k
Tolerance: 1%; Power Rating: 0.0625W; Package: 0402; Value: 20k; Supplier 1: Digi-Key; Supplier Part Number 1: 311-20.0KLRCT-ND
footprint GEN_R_0402 (Chip Resistor, 2-Leads, Body 1.00x0.50mm, IPC Medium Density)
pins: 1, 2

## RES 24K OHM 1% 1/10W 0402
designator R?, comment 24K
Tolerance: 1%; Power Rating: 0.1W; Package: 0402; Supplier 1: Digi-Key; Supplier Part Number 1: P24.0KLCT-ND; Value: 24K
footprint GEN_R_0402 (Chip Resistor, 2-Leads, Body 1.00x0.50mm, IPC Medium Density)
pins: 1, 2

## RES 30K OHM 1% 1/16W 0402
designator R?, comment 30k
Tolerance: 1%; Power Rating: 0.0625W; Package: 0402; Value: 30k; Supplier 1: Digi-Key; Supplier Part Number 1: 311-30.0KLRCT-ND
footprint GEN_R_0402 (Chip Resistor, 2-Leads, Body 1.00x0.50mm, IPC Medium Density)
pins: 1, 2

## RES 33 OHM 1% 1/20W 0201
designator R?, comment 33
Tolerance: 1%; Power Rating: 0.05W; Package: 0201; Value: 33; Supplier 1: Digi-Key; Supplier Part Number 1: RMCF0201FT33R0CT-ND
footprint GEN_R_0201 (Chip Resistor, 2-Leads, Body 0.60x0.30mm, IPC Medium Density)
pins: 1, 2

## RES 36K OHM 1% 1/16W 0402
designator R?, comment 36k
Tolerance: 1%; Power Rating: 0.0625W; Package: 0402; Value: 36k; Supplier 1: Digi-Key; Supplier Part Number 1: 311-36.0KLRCT-ND
footprint GEN_R_0402 (Chip Resistor, 2-Leads, Body 1.00x0.50mm, IPC Medium Density)
pins: 1, 2

## RES 39K OHM 1% 1/16W 0402
designator R?, comment 39k
Tolerance: 1%; Power Rating: 0.0625W; Package: 0402; Value: 39k; Supplier 1: Digi-Key; Supplier Part Number 1: 311-39.0KLRCT-ND
footprint GEN_R_0402 (Chip Resistor, 2-Leads, Body 1.00x0.50mm, IPC Medium Density)
pins: 1, 2

## RES 49.9 OHM 1% 1/10W 0402
designator R?, comment 49.9
Tolerance: 1%; Power Rating: 0.1W; Package: 0402; Value: 49.9; Supplier 1: Digi-Key; Supplier Part Number 1: 311-49.9LRCT-ND
footprint GEN_R_0402 (Chip Resistor, 2-Leads, Body 1.00x0.50mm, IPC Medium Density)
pins: 1, 2

## RES 57.6K OHM 1% 1/16W 0402
designator R?, comment 57.6k
Tolerance: 1%; Power Rating: 0.0625W; Package: 0402; Value: 57.6k; Supplier 1: Digi-Key; Supplier Part Number 1: YAG3190CT-ND
footprint GEN_R_0402 (Chip Resistor, 2-Leads, Body 1.00x0.50mm, IPC Medium Density)
pins: 1, 2

## RES 82 OHM 1% 1/16W 0402
designator R?, comment 82
Tolerance: 1%; Power Rating: 0.0625W; Package: 0402; Supplier 1: Digi-Key; Supplier Part Number 1: 311-82LRCT-ND; Value: 82
footprint GEN_R_0402 (Chip Resistor, 2-Leads, Body 1.00x0.50mm, IPC Medium Density)
pins: 1, 2

## RES 90.9K OHM 1% 1/16W 0402
designator R?, comment 90.9k
Tolerance: 1%; Power Rating: 0.0625W; Package: 0402; Value: 90.9k; Supplier 1: Digi-Key; Supplier Part Number 1: 311-90.9KLRCT-ND
footprint GEN_R_0402 (Chip Resistor, 2-Leads, Body 1.00x0.50mm, IPC Medium Density)
pins: 1, 2

## RES 100 OHM 1% 1/10W 0402
designator R?, comment 100
Tolerance: 1%; Power Rating: 0.1W; Package: 0402; Value: 100; Supplier 1: Digi-Key; Supplier Part Number 1: 2019-RK73H1ETTP1000FCT-ND
footprint GEN_R_0402 (Chip Resistor, 2-Leads, Body 1.00x0.50mm, IPC Medium Density)
pins: 1, 2

## RES 100 OHM 1% 1/20W 0201
designator R?, comment 100
Tolerance: 1%; Power Rating: 0.05W; Package: 0201; Value: 100; Supplier 1: Digi-Key; Supplier Part Number 1: 311-100MCT-ND
footprint GEN_R_0201 (Chip Resistor, 2-Leads, Body 0.60x0.30mm, IPC Medium Density)
pins: 1, 2

## RES 100K OHM 1% 1/10W 0402
designator R?, comment 100k
Tolerance: 1%; Power Rating: 0.1W; Package: 0402; Value: 100k; Supplier 1: Digi-Key; Supplier Part Number 1: 311-100KLRCT-ND
footprint GEN_R_0402 (Chip Resistor, 2-Leads, Body 1.00x0.50mm, IPC Medium Density)
pins: 1, 2

## RES 150 OHM 1% 1/16W 0402
designator R?, comment 150
Tolerance: 1%; Power Rating: 0.0625W; Package: 0402; Value: 150; Supplier 1: Digi-Key; Supplier Part Number 1: 311-150LRCT-ND
footprint GEN_R_0402 (Chip Resistor, 2-Leads, Body 1.00x0.50mm, IPC Medium Density)
pins: 1, 2

## RES 169K OHM 1% 1/16W 0402
designator R?, comment 169K
Tolerance: 1%; Power Rating: 0.0625W; Package: 0402; Value: 169K; Supplier 1: Digi-Key; Supplier Part Number 1: YAG3000CT-ND
footprint GEN_R_0402 (Chip Resistor, 2-Leads, Body 1.00x0.50mm, IPC Medium Density)
pins: 1, 2

## RES 220K OHM 1% 1/16W 0402
designator R?, comment 220K
Tolerance: 1%; Power Rating: 0.0625W; Package: 0402; Value: 220K; Supplier 1: Digi-Key; Supplier Part Number 1: 311-220KLRCT-ND
footprint GEN_R_0402 (Chip Resistor, 2-Leads, Body 1.00x0.50mm, IPC Medium Density)
pins: 1, 2

## RES 240 OHM 1% 1/16W 0402
designator R?, comment 240
Tolerance: 1%; Power Rating: 0.0625W; Package: 0402; Value: 240; Supplier 1: Digi-Key; Supplier Part Number 1: 311-240LRTR-ND
footprint GEN_R_0402 (Chip Resistor, 2-Leads, Body 1.00x0.50mm, IPC Medium Density)
pins: 1, 2

## RES 261K OHM 1% 1/16W 0402
designator R?, comment 261K
Tolerance: 1%; Power Rating: 0.0625W; Package: 0402; Value: 261K; Supplier 1: Digi-Key; Supplier Part Number 1: 311-261KLRCT-ND
footprint GEN_R_0402 (Chip Resistor, 2-Leads, Body 1.00x0.50mm, IPC Medium Density)
pins: 1, 2

## RES 294K OHM 1% 1/16W 0402
designator R?, comment 294K  Supplier Part Number 1: YAG3092CT-ND
Tolerance: 1%; Power Rating: 0.0625W; Package: 0402; Value: 294K; Supplier 1: Digi-Key
footprint GEN_R_0402 (Chip Resistor, 2-Leads, Body 1.00x0.50mm, IPC Medium Density)
pins: 1, 2

## RES 300K OHM 1% 1/10W 0402
designator R?, comment 300K
Tolerance: 1%; Power Rating: 0.1W; Package: 0402; Supplier 1: Digi-Key; Supplier Part Number 1: P300KLCT-ND; Value: 300K
footprint GEN_R_0402 (Chip Resistor, 2-Leads, Body 1.00x0.50mm, IPC Medium Density)
pins: 1, 2

## RES 309K OHM 1% 1/16W 0402
designator R?, comment 309K
Tolerance: 1%; Power Rating: 0.0625W; Package: 0402; Value: 309K; Supplier 1: Digi-Key; Supplier Part Number 1: YAG3108CT-ND
footprint GEN_R_0402 (Chip Resistor, 2-Leads, Body 1.00x0.50mm, IPC Medium Density)
pins: 1, 2

## RES 390K OHM 1% 1/10W 0402
designator R?, comment 390K
Tolerance: 1%; Power Rating: 0.1W; Package: 0402; Supplier 1: Digi-Key; Supplier Part Number 1: P390KLCT-ND; Value: 390K
footprint GEN_R_0402 (Chip Resistor, 2-Leads, Body 1.00x0.50mm, IPC Medium Density)
pins: 1, 2

## RES 499K OHM 1% 1/10W 0402
designator R?, comment 499K
Tolerance: 1%; Power Rating: 0.1W; Package: 0402; Supplier 1: Digi-Key; Supplier Part Number 1: P499KLCT-ND; Value: 499K
footprint GEN_R_0402 (Chip Resistor, 2-Leads, Body 1.00x0.50mm, IPC Medium Density)
pins: 1, 2

## RES 510K OHM 1% 1/10W 0402
designator R?, comment 510K
Tolerance: 1%; Power Rating: 0.1W; Package: 0402; Supplier 1: Digi-Key; Supplier Part Number 1: P510KLCT-ND; Value: 510K
footprint GEN_R_0402 (Chip Resistor, 2-Leads, Body 1.00x0.50mm, IPC Medium Density)
pins: 1, 2

## RES 560 OHM 1% 1/16W 0402
designator R?, comment 560
Tolerance: 1%; Power Rating: 0.0625W; Package: 0402; Value: 560; Supplier 1: Digi-Key; Supplier Part Number 1: 311-560LRCT-ND
footprint GEN_R_0402 (Chip Resistor, 2-Leads, Body 1.00x0.50mm, IPC Medium Density)
pins: 1, 2

## RES 681K OHM 1% 1/16W 0402
designator R?, comment 681K
Tolerance: 1%; Power Rating: 0.0625W; Package: 0402; Value: 681K; Supplier 1: Digi-Key; Supplier Part Number 1: YAG3212CT-ND
footprint GEN_R_0402 (Chip Resistor, 2-Leads, Body 1.00x0.50mm, IPC Medium Density)
pins: 1, 2

## RES 909K OHM 1% 1/16W 0402
designator R?, comment 909k
Tolerance: 1%; Power Rating: 0.0625W; Package: 0402; Supplier 1: Digi-Key; Supplier Part Number 1: YAG2377CT-ND; Value: 909k
footprint GEN_R_0402 (Chip Resistor, 2-Leads, Body 1.00x0.50mm, IPC Medium Density)
pins: 1, 2

## RES DNP 0402
designator R?, comment DNP  (no BOM)
Tolerance: 1%; Power Rating: 0.0625W; Package: 0402; Value: DNP
footprint GEN_R_0402 (Chip Resistor, 2-Leads, Body 1.00x0.50mm, IPC Medium Density)
pins: 1, 2

## RES TBD 0402
designator R?, comment TBD  (no BOM)
Tolerance: 1%; Power Rating: 0.0625W; Package: 0402; Value: TBD
footprint GEN_R_0402 (Chip Resistor, 2-Leads, Body 1.00x0.50mm, IPC Medium Density)
pins: 1, 2

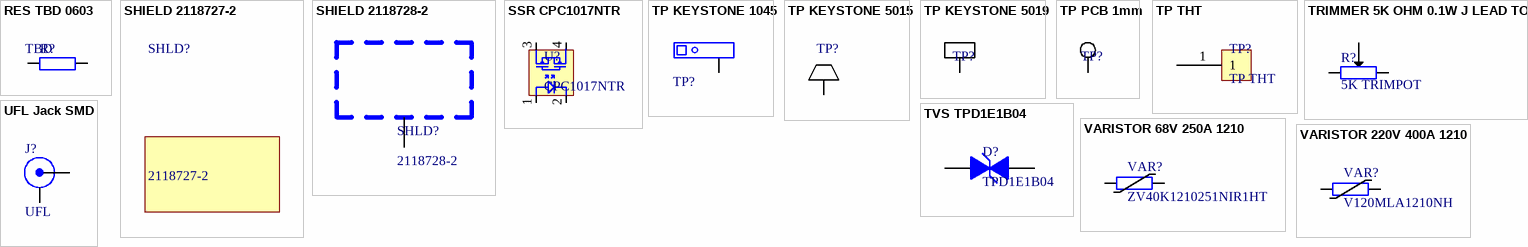
[diagram p4: symbols RES TBD 0603 to VARISTOR 220V 400A 1210]

## RES TBD 0603
designator R?, comment TBD
Value: TBD; Package: 0603
footprint GEN_R_0603
pins: 1, 2

## SHIELD 2118727-2
designator SHLD?, comment 2118727-2  (mechanical)
Supplier 1: Digi-Key; Supplier Part Number 1: A126132-ND

## SHIELD 2118728-2
designator SHLD?, comment 2118728-2
Supplier 1: Digi-Key; Supplier Part Number 1: A126158CT-ND
footprint TE_2118728-2
pins: 1

## SSR CPC1017NTR
designator U?, comment CPC1017NTR
Supplier 1: Digi-Key; Supplier Part Number 1: CLA233CT-ND
footprint IXY_CPC1017
pins: 1, 2, 3, 4

## TP KEYSTONE 1045
designator TP?, comment 1045  (value not drawn)
Supplier 1: Digi-Key; Supplier Part Number 1: 36-1045-ND
footprint KEY_1045
pins: 1

## TP KEYSTONE 5015
designator TP?, comment 5015  (value not drawn)
Supplier 1: Digi-Key; Supplier Part Number 1: 36-5015CT-ND
footprint KEY_5015 (PC TEST POINT MICRO MINIATURE)
pins: 1

## TP KEYSTONE 5019
designator TP?, comment 5019  (value not drawn)
Supplier 1: Digi-Key; Supplier Part Number 1: 36-5019CT-ND
footprint KEY_5019 (PC TEST POINT MINIATURE)
pins: 1

## TP PCB 1mm
designator TP?, comment PCB  (value not drawn)  (no BOM)
footprint GEN_TP_PCB
pins: 1

## TP THT
designator TP?
footprint GEN_1_Pin_TH_TP
pins: 1

## TRIMMER 5K OHM 0.1W J LEAD TOP
designator R?, comment 5K TRIMPOT
Tolerance: 1%; Power Rating: 0.1W; Supplier 1: Digi-Key; Supplier Part Number 1: TC33X-502ECT-ND; Value: 5K
footprint BOU_3mm_POT
pins: 1, 2, 3

## TVS TPD1E1B04
designator D?, comment TPD1E1B04
Supplier 1: Digi-Key; Supplier Part Number 1: 296-47364-1-ND
footprint TI_X1SON_DPY0002A (Chip Resistor, 2-Leads, Body 1.00x0.50mm, IPC Medium Density)
pins: 1 K, 2 A

## UFL Jack SMD
designator J?, comment UFL
Supplier 1: Digi-Key; Supplier Part Number 1: A145155CT-ND
footprint TE_2334884-1
pins: 1 Signal, 2 SHIELD

## VARISTOR 68V 250A 1210
designator VAR?, comment ZV40K1210251NIR1HT
Supplier 1: Digi-Key; Supplier Part Number 1: 118-ZV40K1210251NIR1HTCT-ND
footprint GEN_VAR_1210 (Chip Varistor, 2-Leads, Body 3.20x2.54mm, IPC Medium Density)
pins: 1, 2

## VARISTOR 220V 400A 1210
designator VAR?, comment V120MLA1210NH
Supplier 1: Digi-Key; Supplier Part Number 1: F3831CT-ND
footprint GEN_VAR_1210 (Chip Varistor, 2-Leads, Body 3.20x2.54mm, IPC Medium Density)
pins: 1, 2